# Altium footprint library Espressif Systems.PcbLib: 5 footprints
Each footprint in its own frame and in the unit in brackets; x right, y up, seen from the top. Pads: shape width x height; smd on the part's side, far side on the other; paste and mask are expansions set on the pad; w line width, h text height; cw(c..) or ccw(c..) is an arc to the next point about the centre after c.
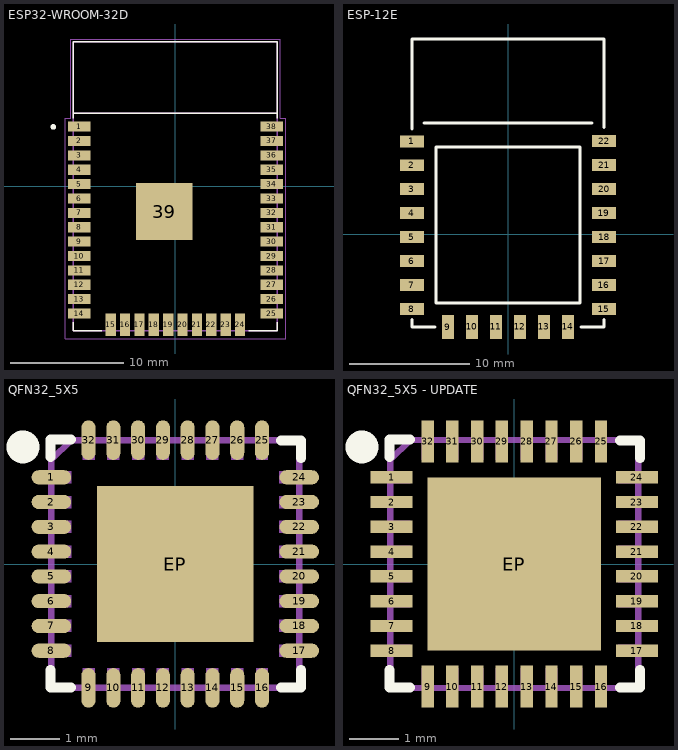
[diagram p0: the footprints below, top view; thin cyan lines are the x and y axes]

## ESP32-WROOM-32D [mm]
pads (39):
  rect 2x0.9 smd: 1(-8.5,5.26) 2(-8.5,3.99) 3(-8.5,2.72) 4(-8.5,1.45) 5(-8.5,0.18) 6(-8.5,-1.09) 7(-8.5,-2.36) 8(-8.5,-3.63) 9(-8.5,-4.9) 10(-8.5,-6.17) 11(-8.5,-7.44) 12(-8.5,-8.71) 13(-8.5,-9.98) 14(-8.5,-11.25) 25(8.5,-11.25) 26(8.5,-9.98) 27(8.5,-8.71) 28(8.5,-7.44) 29(8.5,-6.17) 30(8.5,-4.9) 31(8.5,-3.63) 32(8.5,-2.36) 33(8.5,-1.09) 34(8.5,0.18) 35(8.5,1.45) 36(8.5,2.72) 37(8.5,3.99) 38(8.5,5.26)
  rect 0.9x2 smd: 15(-5.715,-12.25) 16(-4.445,-12.25) 17(-3.175,-12.25) 18(-1.905,-12.25) 19(-0.635,-12.25) 20(0.635,-12.25) 21(1.905,-12.25) 22(3.175,-12.25) 23(4.445,-12.25) 24(5.715,-12.25)
  rect 5x5 smd: 39(-1,-2.24)
Top Overlay:
  circle w0.3: c-10.777,5.238 r0.1
  lines w0.127: -9,-12 -9,-12.75 -6.5,-12.75 ; -9,6 -9,12.75 9,12.75 9,6 ; -8.96,6.45 8.96,6.45 ; 6.5,-12.75 9,-12.75 9,-12
Top Paste:
  region: -2.584,-0.659 0.581,-0.659 0.581,-3.825 -2.584,-3.825
Mechanical 4:
  circle w0.3: c-8.277,5.238 r0.1
  circle w0.3: c-8.277,5.238 r0.1
  lines w0.127: -9,-12.75 9,-12.75 ; -9,-12.75 -9,12.75 ; -9,-12.75 9,-12.75 ; -9,-12.75 -9,12.75 ; -9,12.75 9,12.75 ; -9,12.75 9,12.75 ; 9,-12.75 9,12.75 ; 9,-12.75 9,12.75 ; -8.96,6.45 8.96,6.45 -8.96,6.45
Mechanical 16:
  lines w0.05: -9.75,-13.5 9.75,-13.5 9.75,6 9.25,6 9.25,13 -9.25,13 -9.25,6 -9.75,6 -9.75,-13.5
3D body "ESP32-WROOM-32D--3DModel-STEP-56544.STEP": height 3.25, standoff 0, extent -9,-12.75 9,12.75

## ESP-12E [mm]
pads (22):
  rect 2x1 smd: 1(-8.002,7.74) 2(-8.002,5.74) 3(-8.002,3.74) 4(-8.002,1.74) 5(-8.002,-0.26) 6(-8.002,-2.26) 7(-8.002,-4.26) 8(-8.001,-6.26) 15(7.999,-6.26) 16(8,-4.26) 17(8.002,-2.26) 18(8.001,-0.26) 19(8,1.74) 20(8.001,3.74) 21(8.001,5.74) 22(8.001,7.74)
  rect 1x2 smd: 9(-5.001,-7.74) 10(-3.001,-7.739) 11(-1.001,-7.739) 12(0.999,-7.739) 13(2.999,-7.739) 14(4.999,-7.74)
Top Overlay:
  lines w0.254: -8.004,-7.653 -8.004,-7.112 ; -8.002,-7.739 -6.096,-7.739 ; -8.002,8.763 -8.002,16.261 7.998,16.261 7.998,8.89 ; -7.002,9.261 6.998,9.261 ; 6.096,-7.739 7.998,-7.739 ; 7.998,-7.653 7.998,-7.112 ; -6.002,-5.739 5.998,-5.739 5.998,7.261 -6.002,7.261 -6.002,-5.739
3D body "ESP-12F.step": height 2.85, standoff -0.01, extent -8.01,-7.747 8.01,16.263

## PCBComponent_1 [mm]

## QFN32_5X5 [mil]
pads (33):
  oval 31.5x11.2 smd: 1(-98.43,68.9) 2(-98.43,49.21) 3(-98.43,29.53) 4(-98.43,9.84) 5(-98.43,-9.84) 6(-98.43,-29.53) 7(-98.43,-49.21) 8(-98.43,-68.9) 17(98.43,-68.9) 18(98.43,-49.21) 19(98.43,-29.53) 20(98.43,-9.84) 21(98.43,9.84) 22(98.43,29.53) 23(98.43,49.21) 24(98.43,68.9)
  oval 11.2x31.5 smd: 9(-68.9,-98.43) 10(-49.21,-98.43) 11(-29.53,-98.43) 12(-9.84,-98.43) 13(9.84,-98.43) 14(29.53,-98.43) 15(49.21,-98.43) 16(68.9,-98.43) 25(68.9,98.43) 26(49.21,98.43) 27(29.53,98.43) 28(9.84,98.43) 29(-9.84,98.43) 30(-29.53,98.43) 31(-49.21,98.43) 32(-68.9,98.43)
  rect 124.02x124.02 smd paste+0: EP(0,0)
Top Overlay:
  circle w19.68: c-121,93 r3.16
  lines w7.87: -99,-84 -99,-98 -83,-98 ; -99,85 -99,99 -83,99 ; 84,-98 100,-98 100,-84 ; 84,98 100,98 100,84
Top Paste:
  region: 57.09,-5.91 57.09,-57.09 5.91,-57.09 5.91,-5.91
  region: -5.91,-57.09 -57.09,-57.09 -57.09,-5.91 -5.91,-5.91
  region: 5.91,57.09 57.09,57.09 57.09,5.91 5.91,5.91
  region: -57.09,5.91 -57.09,57.09 -5.91,57.09 -5.91,5.91
Mechanical 8:
  region: -64.17,-98.43 -73.62,-98.43 -73.62,-82.68 -64.17,-82.68
  region: -44.49,-98.43 -53.94,-98.43 -53.94,-82.68 -44.49,-82.68
  region: -24.8,-98.43 -34.25,-98.43 -34.25,-82.68 -24.8,-82.68
  region: 73.62,-98.43 64.17,-98.43 64.17,-82.68 73.62,-82.68
  region: 53.94,-98.43 44.49,-98.43 44.49,-82.68 53.94,-82.68
  region: 34.25,-98.43 24.8,-98.43 24.8,-82.68 34.25,-82.68
  region: 14.57,-98.43 5.12,-98.43 5.12,-82.68 14.57,-82.68
  region: -5.12,-98.43 -14.57,-98.43 -14.57,-82.68 -5.12,-82.68
  region: -98.43,64.17 -98.43,73.62 -82.68,73.62 -82.68,64.17
  region: -98.43,44.49 -98.43,53.94 -82.68,53.94 -82.68,44.49
  region: -98.43,24.8 -98.43,34.25 -82.68,34.25 -82.68,24.8
  region: -98.43,-73.62 -98.43,-64.17 -82.68,-64.17 -82.68,-73.62
  region: -98.43,-53.94 -98.43,-44.49 -82.68,-44.49 -82.68,-53.94
  region: -98.43,-34.25 -98.43,-24.8 -82.68,-24.8 -82.68,-34.25
  region: -98.43,-14.57 -98.43,-5.12 -82.68,-5.12 -82.68,-14.57
  region: -98.43,5.12 -98.43,14.57 -82.68,14.57 -82.68,5.12
  region: 98.43,-64.17 98.43,-73.62 82.68,-73.62 82.68,-64.17
  region: 98.43,-44.49 98.43,-53.94 82.68,-53.94 82.68,-44.49
  region: 98.43,-24.8 98.43,-34.25 82.68,-34.25 82.68,-24.8
  region: 98.43,73.62 98.43,64.17 82.68,64.17 82.68,73.62
  region: 98.43,53.94 98.43,44.49 82.68,44.49 82.68,53.94
  region: 98.43,34.25 98.43,24.8 82.68,24.8 82.68,34.25
  region: 98.43,14.57 98.43,5.12 82.68,5.12 82.68,14.57
  region: 98.43,-5.12 98.43,-14.57 82.68,-14.57 82.68,-5.12
  region: 64.17,98.43 73.62,98.43 73.62,82.68 64.17,82.68
  region: 44.49,98.43 53.94,98.43 53.94,82.68 44.49,82.68
  region: 24.8,98.43 34.25,98.43 34.25,82.68 24.8,82.68
  region: -73.62,98.43 -64.17,98.43 -64.17,82.68 -73.62,82.68
  region: -53.94,98.43 -44.49,98.43 -44.49,82.68 -53.94,82.68
  region: -34.25,98.43 -24.8,98.43 -24.8,82.68 -34.25,82.68
  region: -14.57,98.43 -5.12,98.43 -5.12,82.68 -14.57,82.68
  region: 5.12,98.43 14.57,98.43 14.57,82.68 5.12,82.68
  lines w5: -98.43,-98.43 98.43,-98.43 98.43,98.43 -98.43,98.43 -98.43,-98.43
Mechanical 22:
  lines w5: -98.43,-82.68 -98.43,-98.43 -82.68,-98.43 ; -98.43,82.68 -82.68,98.43 ; 82.68,-98.43 98.43,-98.43 98.43,-82.68 ; 82.68,98.43 98.43,98.43 98.43,82.68
3D body "QFN32-5x5.step": height 31.5, standoff 0, extent -98.81,-98.81 98.83,98.83

## QFN32_5X5 - UPDATE [mm]
pads (33):
  rect 0.85x0.25 smd mask+0.068: 1(-2.475,1.75) 2(-2.475,1.25) 3(-2.475,0.75) 4(-2.475,0.25) 5(-2.475,-0.25) 6(-2.475,-0.75) 7(-2.475,-1.25) 8(-2.475,-1.75) 17(2.475,-1.75) 18(2.475,-1.25) 19(2.475,-0.75) 20(2.475,-0.25) 21(2.475,0.25) 22(2.475,0.75) 23(2.475,1.25) 24(2.475,1.75)
  rect 0.25x0.85 smd mask+0.068: 9(-1.75,-2.475) 10(-1.25,-2.475) 11(-0.75,-2.475) 12(-0.25,-2.475) 13(0.25,-2.475) 14(0.75,-2.475) 15(1.25,-2.475) 16(1.75,-2.475) 25(1.75,2.475) 26(1.25,2.475) 27(0.75,2.475) 28(0.25,2.475) 29(-0.25,2.475) 30(-0.75,2.475) 31(-1.25,2.475) 32(-1.75,2.475)
  rect 3.5x3.5 smd mask+0.068: EP(0,0)
Top Overlay:
  circle w0.5: c-3.073,2.362 r0.08
  lines w0.2: -2.515,-2.134 -2.515,-2.489 -2.108,-2.489 ; -2.515,2.159 -2.515,2.515 -2.108,2.515 ; 2.134,-2.489 2.54,-2.489 2.54,-2.134 ; 2.134,2.489 2.54,2.489 2.54,2.134
Top Paste:
  region: 1.45,-0.15 1.45,-1.45 0.15,-1.45 0.15,-0.15
  region: -0.15,-1.45 -1.45,-1.45 -1.45,-0.15 -0.15,-0.15
  region: 0.15,1.45 1.45,1.45 1.45,0.15 0.15,0.15
  region: -1.45,0.15 -1.45,1.45 -0.15,1.45 -0.15,0.15
Mechanical 8:
  region: -1.63,-2.5 -1.87,-2.5 -1.87,-2.1 -1.63,-2.1
  region: -1.13,-2.5 -1.37,-2.5 -1.37,-2.1 -1.13,-2.1
  region: -0.63,-2.5 -0.87,-2.5 -0.87,-2.1 -0.63,-2.1
  region: 1.87,-2.5 1.63,-2.5 1.63,-2.1 1.87,-2.1
  region: 1.37,-2.5 1.13,-2.5 1.13,-2.1 1.37,-2.1
  region: 0.87,-2.5 0.63,-2.5 0.63,-2.1 0.87,-2.1
  region: 0.37,-2.5 0.13,-2.5 0.13,-2.1 0.37,-2.1
  region: -0.13,-2.5 -0.37,-2.5 -0.37,-2.1 -0.13,-2.1
  region: -2.5,1.63 -2.5,1.87 -2.1,1.87 -2.1,1.63
  region: -2.5,1.13 -2.5,1.37 -2.1,1.37 -2.1,1.13
  region: -2.5,0.63 -2.5,0.87 -2.1,0.87 -2.1,0.63
  region: -2.5,-1.87 -2.5,-1.63 -2.1,-1.63 -2.1,-1.87
  region: -2.5,-1.37 -2.5,-1.13 -2.1,-1.13 -2.1,-1.37
  region: -2.5,-0.87 -2.5,-0.63 -2.1,-0.63 -2.1,-0.87
  region: -2.5,-0.37 -2.5,-0.13 -2.1,-0.13 -2.1,-0.37
  region: -2.5,0.13 -2.5,0.37 -2.1,0.37 -2.1,0.13
  region: 2.5,-1.63 2.5,-1.87 2.1,-1.87 2.1,-1.63
  region: 2.5,-1.13 2.5,-1.37 2.1,-1.37 2.1,-1.13
  region: 2.5,-0.63 2.5,-0.87 2.1,-0.87 2.1,-0.63
  region: 2.5,1.87 2.5,1.63 2.1,1.63 2.1,1.87
  region: 2.5,1.37 2.5,1.13 2.1,1.13 2.1,1.37
  region: 2.5,0.87 2.5,0.63 2.1,0.63 2.1,0.87
  region: 2.5,0.37 2.5,0.13 2.1,0.13 2.1,0.37
  region: 2.5,-0.13 2.5,-0.37 2.1,-0.37 2.1,-0.13
  region: 1.63,2.5 1.87,2.5 1.87,2.1 1.63,2.1
  region: 1.13,2.5 1.37,2.5 1.37,2.1 1.13,2.1
  region: 0.63,2.5 0.87,2.5 0.87,2.1 0.63,2.1
  region: -1.87,2.5 -1.63,2.5 -1.63,2.1 -1.87,2.1
  region: -1.37,2.5 -1.13,2.5 -1.13,2.1 -1.37,2.1
  region: -0.87,2.5 -0.63,2.5 -0.63,2.1 -0.87,2.1
  region: -0.37,2.5 -0.13,2.5 -0.13,2.1 -0.37,2.1
  region: 0.13,2.5 0.37,2.5 0.37,2.1 0.13,2.1
  lines w0.127: -2.5,-2.5 2.5,-2.5 2.5,2.5 -2.5,2.5 -2.5,-2.5
Mechanical 22:
  lines w0.127: -2.5,-2.1 -2.5,-2.5 -2.1,-2.5 ; -2.5,2.1 -2.1,2.5 ; 2.1,-2.5 2.5,-2.5 2.5,-2.1 ; 2.1,2.5 2.5,2.5 2.5,2.1
3D body "QFN32-5x5.step": height 0.8, standoff 0, extent -2.51,-2.51 2.51,2.51